# Altium footprint library micro-infineon.PCBLIB: 1 footprints
Each footprint in its own frame and in the unit in brackets; x right, y up, seen from the top. Pads: shape width x height; smd on the part's side, far side on the other; paste and mask are expansions set on the pad; w line width, h text height; cw(c..) or ccw(c..) is an arc to the next point about the centre after c.
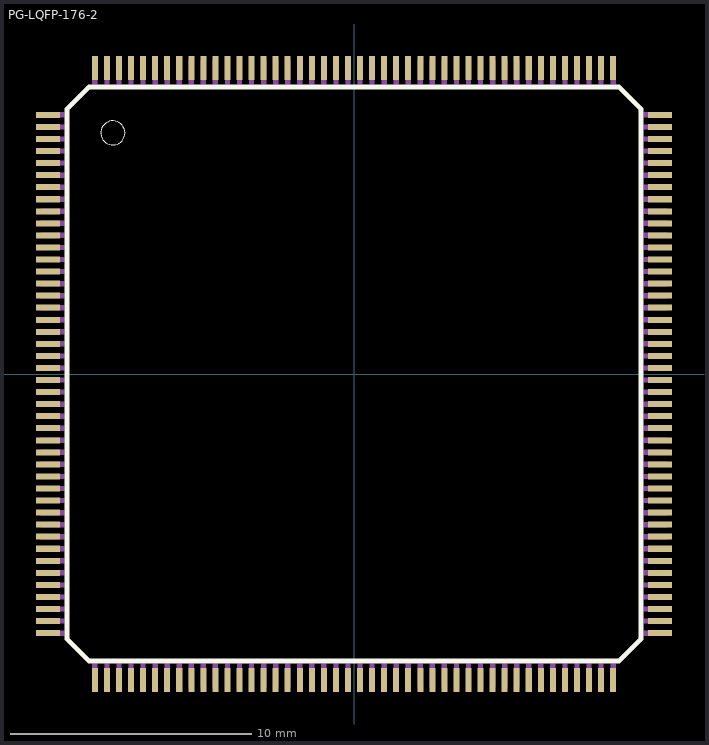
[diagram p0: the footprint, top view; thin cyan lines are the x and y axes]

## PG-LQFP-176-2 [mm]
pads (176):
  rect 1x0.25 smd: 1(-12.7,10.75) 2(-12.7,10.25) 3(-12.7,9.75) 4(-12.7,9.25) 5(-12.7,8.75) 6(-12.7,8.25) 7(-12.7,7.75) 8(-12.7,7.25) 9(-12.7,6.75) 10(-12.7,6.25) 11(-12.7,5.75) 12(-12.7,5.25) 13(-12.7,4.75) 14(-12.7,4.25) 15(-12.7,3.75) 16(-12.7,3.25) 17(-12.7,2.75) 18(-12.7,2.25) 19(-12.7,1.75) 20(-12.7,1.25) 21(-12.7,0.75) 22(-12.7,0.25) 23(-12.7,-0.25) 24(-12.7,-0.75) 25(-12.7,-1.25) 26(-12.7,-1.75) 27(-12.7,-2.25) 28(-12.7,-2.75) 29(-12.7,-3.25) 30(-12.7,-3.75) 31(-12.7,-4.25) 32(-12.7,-4.75) 33(-12.7,-5.25) 34(-12.7,-5.75) 35(-12.7,-6.25) 36(-12.7,-6.75) 37(-12.7,-7.25) 38(-12.7,-7.75) 39(-12.7,-8.25) 40(-12.7,-8.75) 41(-12.7,-9.25) 42(-12.7,-9.75) 43(-12.7,-10.25) 44(-12.7,-10.75) 89(12.7,-10.75) 90(12.7,-10.25) 91(12.7,-9.75) 92(12.7,-9.25) 93(12.7,-8.75) 94(12.7,-8.25) 95(12.7,-7.75) 96(12.7,-7.25) 97(12.7,-6.75) 98(12.7,-6.25) 99(12.7,-5.75) 100(12.7,-5.25) 101(12.7,-4.75) 102(12.7,-4.25) 103(12.7,-3.75) 104(12.7,-3.25) 105(12.7,-2.75) 106(12.7,-2.25) 107(12.7,-1.75) 108(12.7,-1.25) 109(12.7,-0.75) 110(12.7,-0.25) 111(12.7,0.25) 112(12.7,0.75) 113(12.7,1.25) 114(12.7,1.75) 115(12.7,2.25) 116(12.7,2.75) 117(12.7,3.25) 118(12.7,3.75) 119(12.7,4.25) 120(12.7,4.75) 121(12.7,5.25) 122(12.7,5.75) 123(12.7,6.25) 124(12.7,6.75) 125(12.7,7.25) 126(12.7,7.75) 127(12.7,8.25) 128(12.7,8.75) 129(12.7,9.25) 130(12.7,9.75) 131(12.7,10.25) 132(12.7,10.75)
  rect 0.25x1 smd: 45(-10.75,-12.7) 46(-10.25,-12.7) 47(-9.75,-12.7) 48(-9.25,-12.7) 49(-8.75,-12.7) 50(-8.25,-12.7) 51(-7.75,-12.7) 52(-7.25,-12.7) 53(-6.75,-12.7) 54(-6.25,-12.7) 55(-5.75,-12.7) 56(-5.25,-12.7) 57(-4.75,-12.7) 58(-4.25,-12.7) 59(-3.75,-12.7) 60(-3.25,-12.7) 61(-2.75,-12.7) 62(-2.25,-12.7) 63(-1.75,-12.7) 64(-1.25,-12.7) 65(-0.75,-12.7) 66(-0.25,-12.7) 67(0.25,-12.7) 68(0.75,-12.7) 69(1.25,-12.7) 70(1.75,-12.7) 71(2.25,-12.7) 72(2.75,-12.7) 73(3.25,-12.7) 74(3.75,-12.7) 75(4.25,-12.7) 76(4.75,-12.7) 77(5.25,-12.7) 78(5.75,-12.7) 79(6.25,-12.7) 80(6.75,-12.7) 81(7.25,-12.7) 82(7.75,-12.7) 83(8.25,-12.7) 84(8.75,-12.7) 85(9.25,-12.7) 86(9.75,-12.7) 87(10.25,-12.7) 88(10.75,-12.7) 133(10.75,12.7) 134(10.25,12.7) 135(9.75,12.7) 136(9.25,12.7) 137(8.75,12.7) 138(8.25,12.7) 139(7.75,12.7) 140(7.25,12.7) 141(6.75,12.7) 142(6.25,12.7) 143(5.75,12.7) 144(5.25,12.7) 145(4.75,12.7) 146(4.25,12.7) 147(3.75,12.7) 148(3.25,12.7) 149(2.75,12.7) 150(2.25,12.7) 151(1.75,12.7) 152(1.25,12.7) 153(0.75,12.7) 154(0.25,12.7) 155(-0.25,12.7) 156(-0.75,12.7) 157(-1.25,12.7) 158(-1.75,12.7) 159(-2.25,12.7) 160(-2.75,12.7) 161(-3.25,12.7) 162(-3.75,12.7) 163(-4.25,12.7) 164(-4.75,12.7) 165(-5.25,12.7) 166(-5.75,12.7) 167(-6.25,12.7) 168(-6.75,12.7) 169(-7.25,12.7) 170(-7.75,12.7) 171(-8.25,12.7) 172(-8.75,12.7) 173(-9.25,12.7) 174(-9.75,12.7) 175(-10.25,12.7) 176(-10.75,12.7)
Top Overlay:
  circle w0: c-10,10 r0.5
  lines w0.203: -11.898,-11 -11.898,11 -11,11.898 11,11.898 11.898,11 11.898,-11 11,-11.898 -11,-11.898 -11.898,-11
Mechanical 16:
  drawing of 176 lines, arcs and shapes, not listed